# Altium schematic symbol library LEDs.SchLib: 1 symbol
Pins are listed as number, name and electrical type; pins without a type are passive.

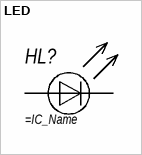
[diagram p0: symbol LED]

## LED
designator HL?
pins: A, K
1 alternate drawing of the same symbol